# Altium footprint library CHSA3920R0003F.PcbLib: 1 footprints
Each footprint in its own frame and in the unit in brackets; x right, y up, seen from the top. Pads: shape width x height; smd on the part's side, far side on the other; paste and mask are expansions set on the pad; w line width, h text height; cw(c..) or ccw(c..) is an arc to the next point about the centre after c.
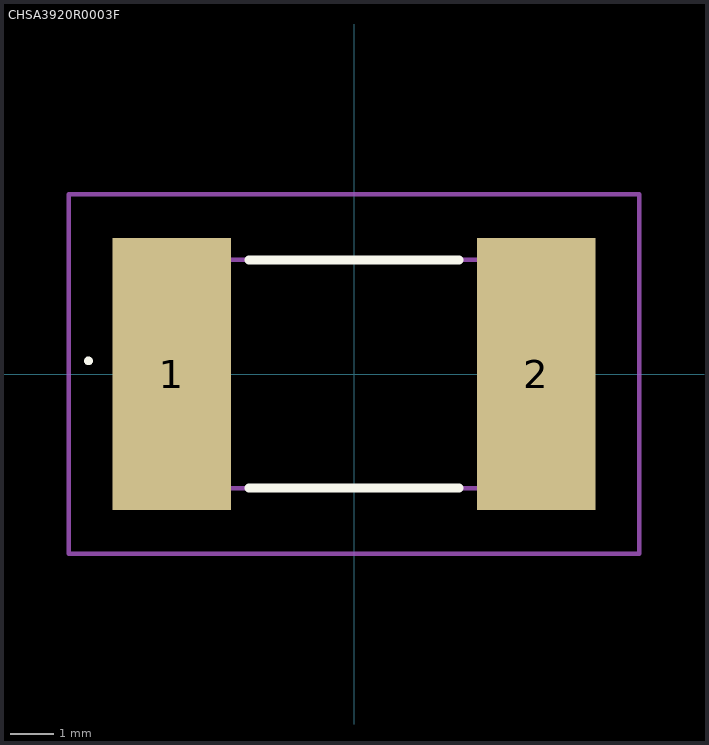
[diagram p0: the footprint, top view; thin cyan lines are the x and y axes]

## CHSA3920R0003F [mm]
pads (2):
  rect 2.7x6.2 smd: 1(-4.15,0) 2(4.15,0)
Top Overlay:
  lines w0.1: -6.1,0.3 -6.1,0.3 ; -6.1,0.3 ccw(c-6.05,0.3) -6,0.3 ; -6.1,0.3 cw(c-6.05,0.3) -6,0.3 ; -6.1,0.3 -6.1,0.3 ; -6.1,0.3 ccw(c-6.05,0.3) -6,0.3 ; -6,0.3 -6,0.3
  lines w0.2: -2.4,-2.6 2.4,-2.6 ; -2.4,2.6 2.4,2.6
Mechanical 15:
  lines w0.1: -5,-2.6 5,-2.6 5,2.6 -5,2.6 -5,-2.6
Mechanical 20:
  lines w0.1: -6.5,-4.1 6.5,-4.1 6.5,4.1 -6.5,4.1 -6.5,-4.1